# Altium footprint library Probe.PcbLib: 9 footprints
Each footprint in its own frame and in the unit in brackets; x right, y up, seen from the top. Pads: shape width x height; smd on the part's side, far side on the other; paste and mask are expansions set on the pad; w line width, h text height; cw(c..) or ccw(c..) is an arc to the next point about the centre after c.
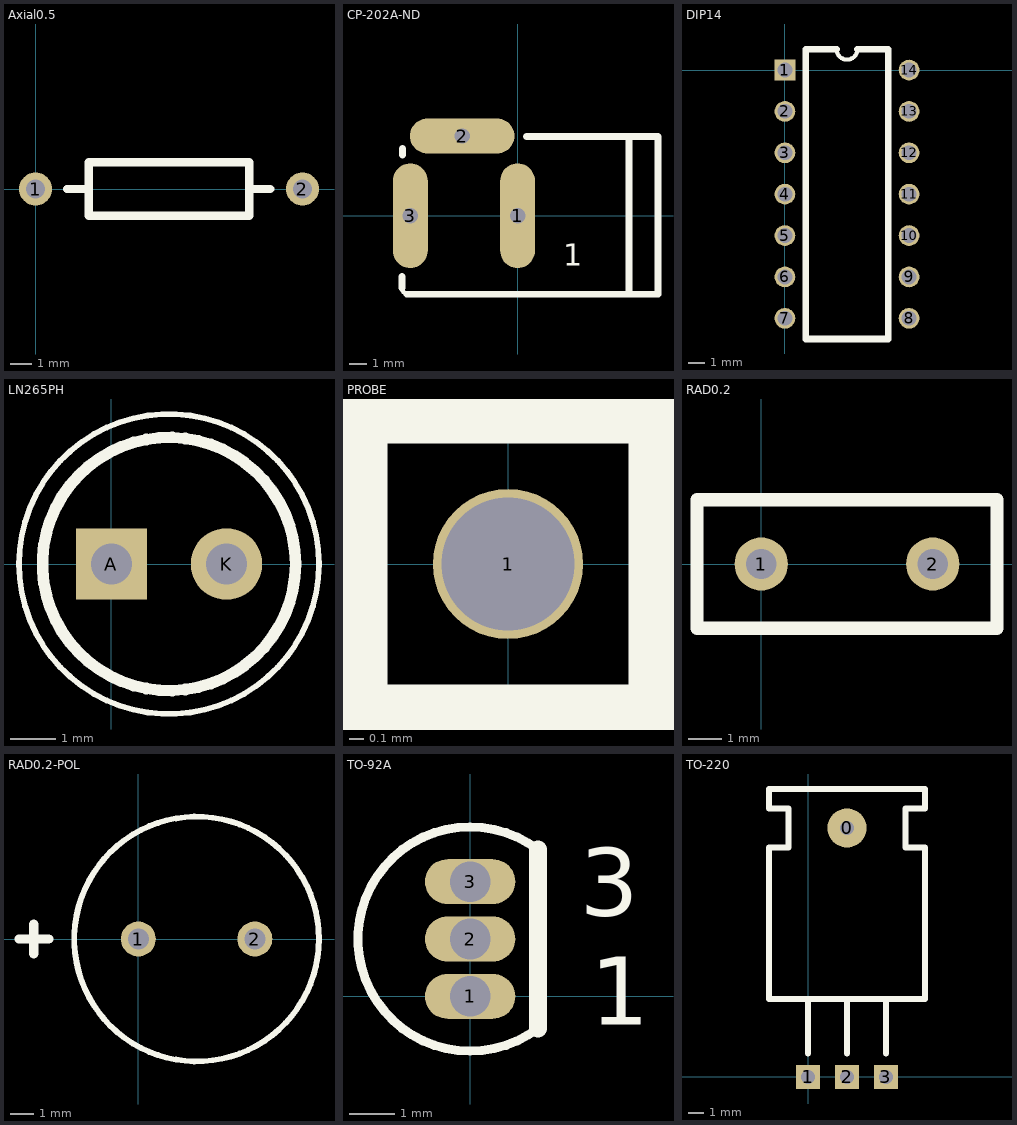
[diagram p0: the footprints below, top view; thin cyan lines are the x and y axes]

## Axial0.5 [mil]
pads (2):
  round 62 hole 35.43: 1(0,0) 2(500,0)
Top Overlay:
  lines w15.75: 59,0 100,0 ; 401,0 440,0 ; 100,-50 100,50 400,50 400,-50 100,-50

## CP-202A-ND [mil]
pads (3):
  oval 80x240 hole 35.43: 1(0,0) 3(-246.06,0)
  oval 240x80 hole 35.43: 2(-127.06,182.83)
Top Overlay:
  lines w10: -265,-166 ccw(c-251.4,-166) -251.4,-179.6
  lines w15.75: -265,-166 -265,-139 ; -264,139 -264,154 ; -253.4,-180.17 300.96,-180.17 ; 20,182 322,182 322,-180.17 298,-180.17 ; 255.9,-177.17 255.9,178.15
  text "1" at 105,-115 h50

## DIP14 [mm]
pads (14):
  rect 1.27x1.27 hole 0.9: 1(0,0)
  round 1.27 hole 0.9: 2(0,-2.54) 3(0,-5.08) 4(0,-7.62) 5(0,-10.16) 6(0,-12.7) 7(0,-15.24) 8(7.62,-15.24) 9(7.62,-12.7) 10(7.62,-10.16) 11(7.62,-7.62) 12(7.62,-5.08) 13(7.62,-2.54) 14(7.62,0)
Top Overlay:
  lines w0.254: 3.175,1.27 ccw(c3.81,1.27) 4.445,1.27
  lines w0.4: 3.175,1.27 1.27,1.27 1.27,-16.51 6.35,-16.51 6.35,1.27 4.445,1.27

## LN265PH [mil]
pads (2):
  rect 62x62 hole 35.43: A(0,0)
  round 62 hole 35.43: K(100,0)
Top Overlay:
  circle w10: c50,0 r110
  circle w5: c50,0 r130.38

## PROBE [mil]
pads (1):
  round 40 hole 35.43: 1(0,0)
Top Overlay:
  lines w15.75: -40,-40 40,-40 40,40 -40,40 -40,-40

## RAD0.2 [mil]
pads (2):
  round 62 hole 35.43: 1(0,0) 2(200,0)
Top Overlay:
  lines w15.75: -75,-75 -75,75 275,75 275,-75 -75,-75

## RAD0.2-POL [mm] "Capacitor (Radial); 2 Leads"
pads (2):
  round 1.5 hole 0.9: 1(0,0) 2(5,0)
Top Overlay:
  circle w0.25: c2.5,0 r5.25
  lines w0.4: -5.12,0 -3.85,0 ; -4.485,-0.635 -4.485,0.635
Mechanical 1:
  circle w0.02: c2.5,0 r5.25

## TO-92A [mm]
pads (3):
  oval 2x1 hole 0.9: 1(0,0) 2(0,1.27) 3(0,2.54)
Top Overlay:
  lines w0.2: 1.5,-0.71 cw(c0,1.27) 1.5,3.25
  lines w0.4: 1.5,-0.71 1.5,3.25
  text "3" at 2.43,1.78 h1.5
  text "1" at 2.66,-0.63 h1.5

## TO-220 [mil]
pads (4):
  round 100 hole 35.43: 0(100,639)
  rect 62x62 hole 35.43: 1(0,0) 2(100,0) 3(200,0)
Top Overlay:
  lines w15.75: -100,586 -100,200 300,200 300,589 250,589 250,689 300,689 300,739 -100,739 -100,689 -50,689 -50,589 -100,589 ; 0,60 0,200 ; 100,60 100,200 ; 200,60 200,200